# EAGLE library part PIC16F88 (library RFID Reader Part Library)
MICROCONTROLLER 8-Bit PIC16F8X Family - CMOS Flash/EEPROM Pin Compatible : PIC16F83, PIC16CR83, PIC16F84A, PIC16CR84 see also PIC16C*
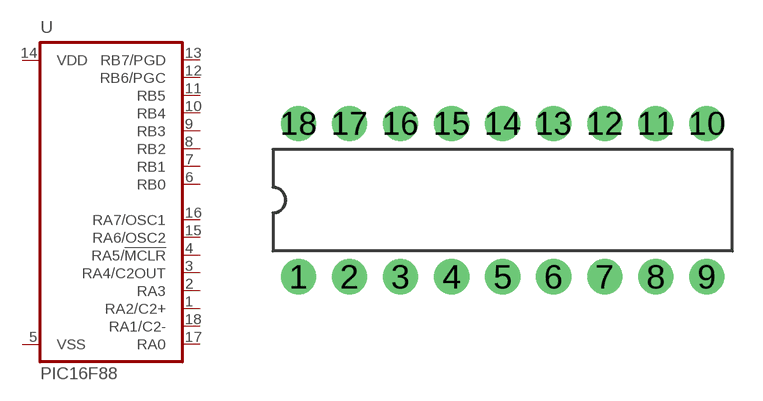
[diagram p1: symbol with the pads of DIL18; footprint DIL18]

Designator prefix U

## PIC16F88  [DIL18]
1  RA2/C2+
2  RA3
3  RA4/C2OUT
4  RA5/!MCLR  in
5  VSS  pwr
6  RB0
7  RB1
8  RB2
9  RB3
10  RB4
11  RB5
12  RB6/PGC
13  RB7/PGD
14  VDD  pwr
15  RA6/OSC2  out
16  RA7/OSC1  in
17  RA0
18  RA1/C2-

## Footprint DIL18 (pad centres in mm)
Dual In Line package type P
drill 0.813 pad 1.75 round: 1 -10.16,-3.81; 2 -7.62,-3.81; 3 -5.08,-3.81; 4 -2.54,-3.81; 5 0,-3.81; 6 2.54,-3.81; 7 5.08,-3.81; 8 7.62,-3.81; 9 10.16,-3.81; 10 10.16,3.81; 11 7.62,3.81; 12 5.08,3.81; 13 2.54,3.81; 14 0,3.81; 15 -2.54,3.81; 16 -5.08,3.81; 17 -7.62,3.81; 18 -10.16,3.81